# Altium footprint library Conn_Tag_Connect_TC2030-CTX-NL_eec_MFG.PcbLib: 1 footprints
Each footprint in its own frame and in the unit in brackets; x right, y up, seen from the top. Pads: shape width x height; smd on the part's side, far side on the other; paste and mask are expansions set on the pad; w line width, h text height; cw(c..) or ccw(c..) is an arc to the next point about the centre after c.
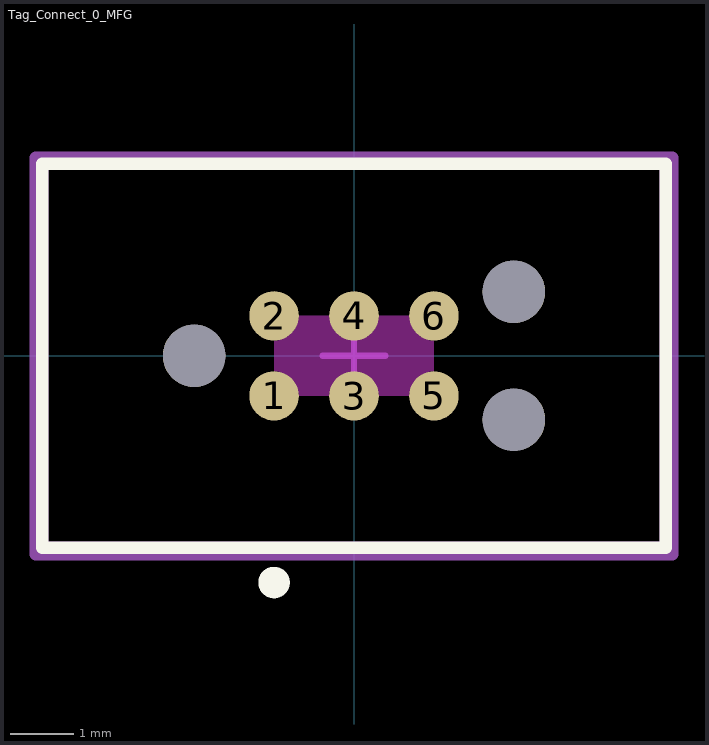
[diagram p0: the footprint, top view; thin cyan lines are the x and y axes]

## Tag_Connect_0_MFG [mil]
pads (9):
  round 30.98 smd paste-39370.1 mask+0: 1(-50,-25) 2(-50,25) 3(0,-25) 4(0,25) 5(50,-25) 6(50,25)
  round 39.02 hole 39.02 unplated paste-39370.1 mask+0: ""(-100,0) ""(100,-40) ""(100,40)
Top Overlay:
  circle w9.84: c-50,-141.73 r4.92
  lines w7.87: -195,-120 195,-120 195,120 -195,120 -195,-120
Keep-Out Layer:
  region: -34.51,-25 -15.49,-25 -15.19,-21.98 -12.88,-16.39 -8.61,-12.12 -3.02,-9.81 3.02,-9.81 8.61,-12.12 12.88,-16.39 15.19,-21.98 15.49,-25 34.51,-25 34.81,-21.98 37.12,-16.39 41.39,-12.12 46.98,-9.81 50,-9.51 50,9.51 46.98,9.81 41.39,12.12 37.12,16.39 34.81,21.98 34.51,25 15.49,25 15.19,21.98 12.88,16.39 8.61,12.12 3.02,9.81 -3.02,9.81 -8.61,12.12 -12.88,16.39 -15.19,21.98 -15.49,25 -34.51,25 -34.81,21.98 -37.12,16.39 -41.39,12.12 -46.98,9.81 -50,9.51 -50,-9.51 -46.98,-9.81 -41.39,-12.12 -37.12,-16.39 -34.81,-21.98 -34.51,-25
Mechanical 10:
  lines w7.87: -198.94,-123.94 198.94,-123.94 198.94,123.94 -198.94,123.94 -198.94,-123.94
  text ".Designator" at 0,7.41 h39.37
Mechanical 12:
  lines w7.87: -195,-120 195,-120 195,120 -195,120 -195,-120
Mechanical 15:
  lines w3.94: -19.68,0 19.68,0 ; 0,-19.68 0,19.68
  lines w7.87: -198.94,-123.94 198.94,-123.94 198.94,123.94 -198.94,123.94 -198.94,-123.94
3D body "Conn_Tag_Connect_TC2030-CTX-NL_eec.STEP": height 10, standoff 0, extent -198.94,-123.94 198.94,123.94